# Altium footprint library 5055780771.PcbLib: 1 footprints
Each footprint in its own frame and in the unit in brackets; x right, y up, seen from the top. Pads: shape width x height; smd on the part's side, far side on the other; paste and mask are expansions set on the pad; w line width, h text height; cw(c..) or ccw(c..) is an arc to the next point about the centre after c.
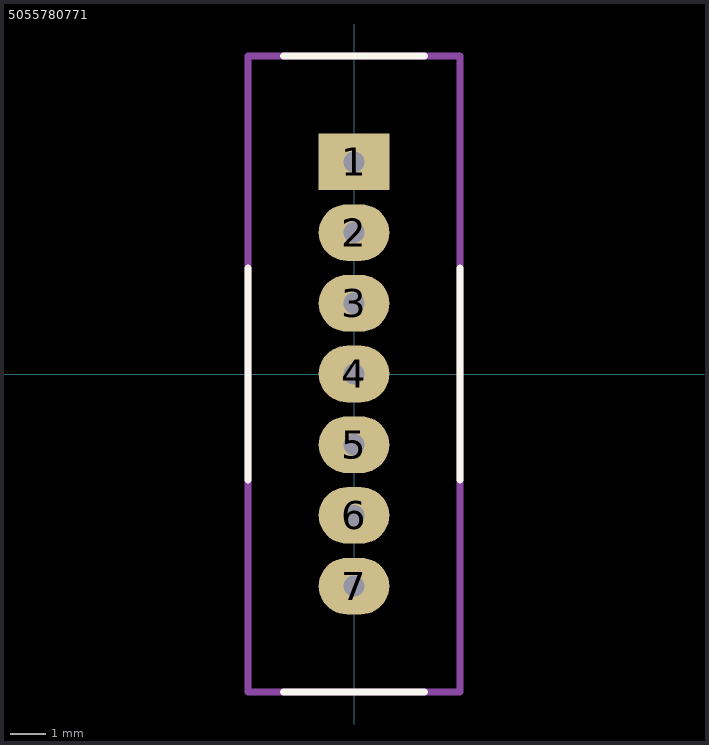
[diagram p0: the footprint, top view; thin cyan lines are the x and y axes]

## 5055780771 [mm]
pads (7):
  rect 2x1.6 hole 0.6: 1(0,6)
  oval 2x1.6 hole 0.6: 2(0,4) 3(0,2) 4(0,0) 5(0,-2) 6(0,-4) 7(0,-6)
Top Overlay:
  lines w0.2: -3,-3 -3,-2 -3,3 ; -2,-9 2,-9 ; -2,9 2,9 ; 3,-3 3,3
Mechanical 13:
  lines w0.2: -3,-9 -3,9 3,9 3,-9 -3,-9
3D body "5055750271.stp": height 4.23, standoff -4.38, extent -3.51,-9 3.9,9